# Altium schematic symbol library RES_100k_0.1W_0402.SchLib: 1 symbol
Pins are listed as number, name and electrical type; pins without a type are passive.

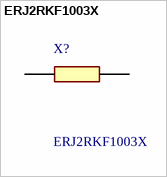
[diagram p0: symbol ERJ2RKF1003X]

## ERJ2RKF1003X
designator X?
Panasonic ERJ2RK Series Thick Film Surface Mount Fixed Resistor 0402 Case +/-1% 0.1W +/-100ppm/C; Geometry.Height: 0.4mm; Manufacturer_Name: Panasonic; Manufacturer_Part_Number: ERJ2RKF1003X; Mouser Part Number: *; Mouser Price/Stock: *; Arrow Part Number: *; Arrow Price/Stock: *; Datasheet Link: http://docs-europe.electrocomponents.com/webdocs/13ba/0900766b813ba21b.pdf
footprint ERJ2RKD1004X
pins: 1, 2